# Altium schematic symbol library LDO.SchLib: 3 symbols
Pins are listed as number, name and electrical type; pins without a type are passive.

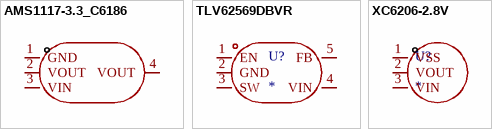
[diagram p0: symbols AMS1117-3.3_C6186 to XC6206-2.8V]

## AMS1117-3.3_C6186
designator U??, comment AMS1117-3.3  (value not drawn)
Manufacturer: AMS; Device: AMS1117-3.3_C6186; Add into BOM: yes; Output Type: Fixed; Voltage - Supply: 16V; Output Voltage: 3.3V; Output Current: 1A; Power Supply Rejection Ratio (PSRR): 72dB@(120Hz); Voltage Dropout: 1.1V@(800mA); standby current: 5mA; Output Configuration: Positive; Number of Outputs: 1; Symbol: AMS1117-3.3; LCSC Part Name: 输出3.3V 1A; Supplier Part: C6186; Manufacturer Part: AMS1117-3.3; Supplier Footprint: SOT-223; JLCPCB Part Class: Basic Part; Datasheet: https://atta.szlcsc.com/upload/public/pdf/source/20180727/C6186_7A095716F0823C02F1997A905E26C086.pdf; Supplier: LCSC; Convert to PCB: yes; Noise: -; Features: Over Current Protection；Over Temperature Protection; Operating Temperature: -40℃~+125℃
footprint SOT-223-3_L6.5-W3.4-P2.30-LS7.0-BR
pins: 1 GND, 2 VOUT, 3 VIN, 4 VOUT

## TLV62569DBVR
designator U?
footprint SOT-23-5_L3.0-W1.7-P0.95-LS2.8-BR
pins: 1 EN, 2 GND, 3 SW, 4 VIN, 5 FB

## XC6206-2.8V
designator U?
footprint SOT-23-3_L2.9-W1.6-P1.90-LS2.8-BR
pins: 1 VSS, 2 VOUT, 3 VIN